# EAGLE library part PC16550DV (library 16550)
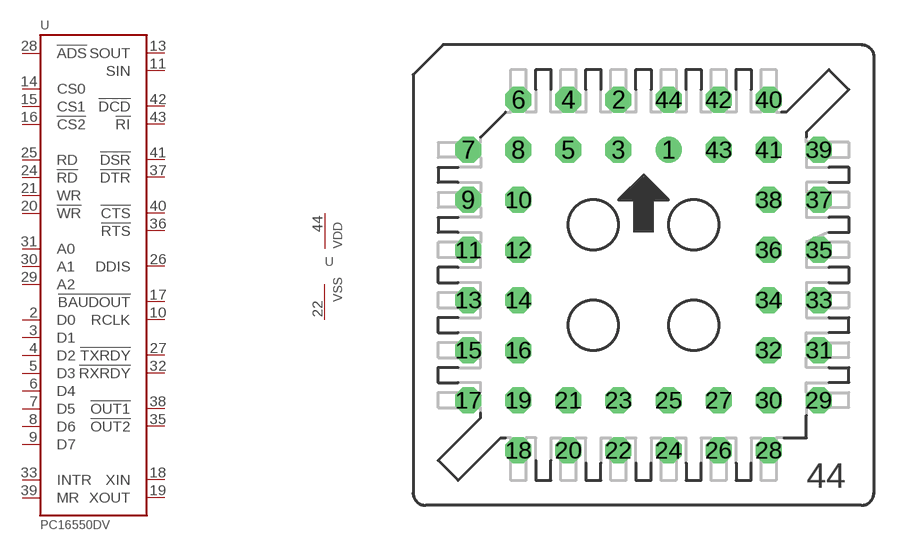
[diagram p1: symbol with the pads of S44; footprint S44]

Designator prefix -; gates G$1=16550 G$2=PWRN

## PC16550DV  [S44]
2  G$1:D0
3  G$1:D1
4  G$1:D2
5  G$1:D3
6  G$1:D4
7  G$1:D5
8  G$1:D6
9  G$1:D7
10  G$1:RCLK  in
11  G$1:SIN  in
13  G$1:SOUT  out
14  G$1:CS0  in
15  G$1:CS1  in
16  G$1:!CS2!  in
17  G$1:!BAUDOUT!  out
18  G$1:XIN  in
19  G$1:XOUT  out
20  G$1:!WR!  in
21  G$1:WR  in
22  G$2:VSS  pwr
24  G$1:!RD!  in
25  G$1:RD  in
26  G$1:DDIS  out
27  G$1:!TXRDY!  out
28  G$1:!ADS!  in
29  G$1:A2  in
30  G$1:A1  in
31  G$1:A0  in
32  G$1:!RXRDY!  out
33  G$1:INTR  out
35  G$1:!OUT2!  out
36  G$1:!RTS!  out
37  G$1:!DTR!  out
38  G$1:!OUT1!  out
39  G$1:MR  in
40  G$1:!CTS!  in
41  G$1:!DSR!  in
42  G$1:!DCD!  in
43  G$1:!RI!  in
44  G$2:VDD  pwr

## Footprint S44 (pad centres in mm)
PLCC SOCKET
drill 0.813: 1 1.27,6.35
drill 0.813 octagon: 2 -1.27,8.89; 3 -1.27,6.35; 4 -3.81,8.89; 5 -3.81,6.35; 6 -6.35,8.89; 7 -8.89,6.35; 8 -6.35,6.35; 9 -8.89,3.81; 10 -6.35,3.81; 11 -8.89,1.27; 12 -6.35,1.27; 13 -8.89,-1.27; 14 -6.35,-1.27; 15 -8.89,-3.81; 16 -6.35,-3.81; 17 -8.89,-6.35; 18 -6.35,-8.89; 19 -6.35,-6.35; 20 -3.81,-8.89; 21 -3.81,-6.35; 22 -1.27,-8.89; 23 -1.27,-6.35; 24 1.27,-8.89; 25 1.27,-6.35; 26 3.81,-8.89; 27 3.81,-6.35; 28 6.35,-8.89; 29 8.89,-6.35; 30 6.35,-6.35; 31 8.89,-3.81; 32 6.35,-3.81; 33 8.89,-1.27; 34 6.35,-1.27; 35 8.89,1.27; 36 6.35,1.27; 37 8.89,3.81; 38 6.35,3.81; 39 8.89,6.35; 40 6.35,8.89; 41 6.35,6.35; 42 3.81,8.89; 43 3.81,6.35; 44 1.27,8.89